# Altium footprint library Connector.PcbLib: 4 footprints
Each footprint in its own frame and in the unit in brackets; x right, y up, seen from the top. Pads: shape width x height; smd on the part's side, far side on the other; paste and mask are expansions set on the pad; w line width, h text height; cw(c..) or ccw(c..) is an arc to the next point about the centre after c.
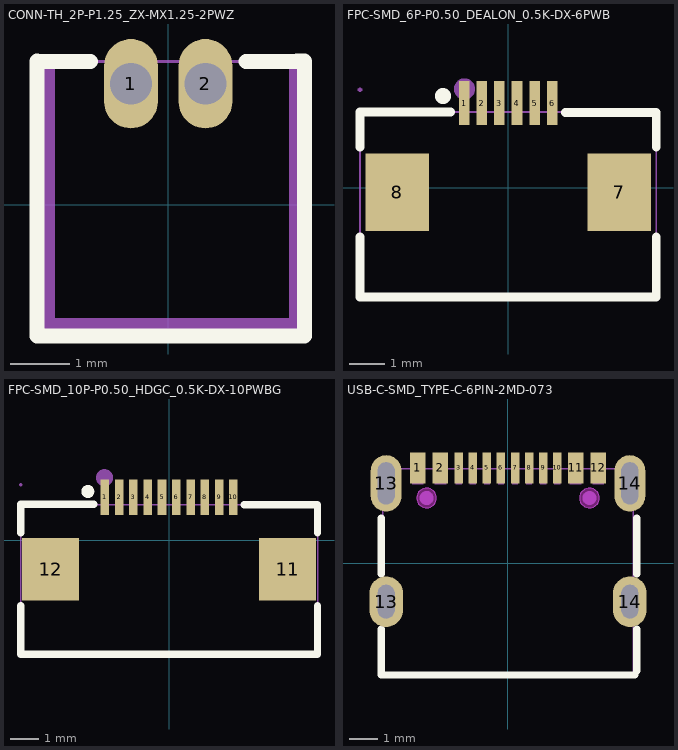
[diagram p0: the footprints below, top view; thin cyan lines are the x and y axes]

## CONN-TH_2P-P1.25_ZX-MX1.25-2PWZ [mm]
pads (2):
  oval 0.9x1.5 hole 0.7: 1(-0.625,2.032) 2(0.625,2.032)
Top Overlay:
  lines w0.254: -2.2,2.407 -1.306,2.407 ; -2.2,2.408 -2.2,-2.2 2.286,-2.2 2.286,2.408 2.159,2.408 ; 1.306,2.407 2.2,2.407
Mechanical 6:
  region: -1.905,2.286 -1.905,-1.905 2.032,-1.905 2.032,2.286 2.032,2.339 2.106,2.413 2.212,2.413 2.286,2.339 2.286,2.286 2.286,-2.032 2.286,-2.057 2.267,-2.104 2.231,-2.14 2.184,-2.159 2.159,-2.159 -2.032,-2.159 -2.057,-2.159 -2.104,-2.14 -2.14,-2.104 -2.159,-2.057 -2.159,-2.032 -2.159,2.286 -2.159,2.339 -2.085,2.413 -1.979,2.413 -1.905,2.339 -1.905,2.286
Mechanical 15:
  region: -0.775,2.207 -0.475,2.207 -0.475,1.857 -0.775,1.857
  region: 0.475,2.207 0.775,2.207 0.775,1.857 0.475,1.857
  region: -2.14,-2.193 -2.14,-2.218 -2.175,-2.253 -2.225,-2.253 -2.26,-2.218 -2.26,-2.193 -2.26,-2.168 -2.225,-2.133 -2.175,-2.133 -2.14,-2.168 -2.14,-2.193
  lines w0.051: -2.2,-2.193 2.2,-2.193 2.2,2.407 -2.2,2.407 -2.2,-2.193
3D body "JST - GH - Thru (R) - 2Pin - 1.25mm.stp": height 3.33, standoff -2.16, extent -2.215,-2.159 2.215,2.337

## FPC-SMD_6P-P0.50_DEALON_0.5K-DX-6PWB [mm]
pads (8):
  rect 0.3x1.25 smd paste+0 mask+0.05: 1(-1.25,2.406) 2(-0.75,2.406) 3(-0.25,2.406) 4(0.25,2.406) 5(0.75,2.406) 6(1.25,2.406)
  rect 1.8x2.2 smd paste+0 mask+0.05: 7(3.15,-0.12) 8(-3.15,-0.12)
Top Overlay:
  circle w0.254: c-1.85,2.605 r0.1
  lines w0.254: -4.2,-1.395 -4.2,-3.094 4.2,-3.094 4.2,-1.395 ; -4.2,1.156 -4.2,2.155 -1.631,2.155 ; 1.631,2.143 4.2,2.143 4.2,1.156
Mechanical 6:
  circle w0.3: c-1.24,2.805 r0.15
Mechanical 15:
  region: -4.14,2.786 -4.14,2.761 -4.175,2.726 -4.225,2.726 -4.26,2.761 -4.26,2.786 -4.26,2.811 -4.225,2.846 -4.175,2.846 -4.14,2.811 -4.14,2.786
  region: -1.35,2.786 -1.15,2.786 -1.15,2.086 -1.35,2.086
  region: -0.85,2.786 -0.65,2.786 -0.65,2.086 -0.85,2.086
  region: -0.35,2.786 -0.15,2.786 -0.15,2.086 -0.35,2.086
  region: 0.15,2.786 0.35,2.786 0.35,2.086 0.15,2.086
  region: 0.65,2.786 0.85,2.786 0.85,2.086 0.65,2.086
  region: 1.15,2.786 1.35,2.786 1.35,2.086 1.15,2.086
  region: -3.9,0.88 -2.4,0.88 -2.4,-1.12 -3.9,-1.12
  region: 2.4,0.88 3.9,0.88 3.9,-1.12 2.4,-1.12
  lines w0.051: -4.2,-3.094 -4.2,2.156 4.2,2.156 4.2,-3.094 -4.2,-3.094
3D body "FPC-05FB-6PH20.SLDPRT": height 2.03, standoff -0.05, extent -3.25,-3.114 3.25,2.286

## FPC-SMD_10P-P0.50_HDGC_0.5K-DX-10PWBG [mm]
pads (12):
  rect 0.3x1.25 smd paste+0 mask+0.05: 1(-2.25,1.517) 2(-1.75,1.517) 3(-1.25,1.517) 4(-0.75,1.517) 5(-0.25,1.517) 6(0.25,1.517) 7(0.75,1.517) 8(1.25,1.517) 9(1.75,1.517) 10(2.25,1.517)
  rect 2x2.2 smd paste+0 mask+0.05: 11(4.15,-1.009) 12(-4.15,-1.009)
Top Overlay:
  circle w0.254: c-2.85,1.716 r0.1
  lines w0.254: -5.2,-2.284 -5.2,-3.983 5.2,-3.983 5.2,-2.284 ; -5.2,0.267 -5.2,1.266 -2.631,1.266 ; 2.631,1.254 5.2,1.254 5.2,0.267
Mechanical 6:
  circle w0.3: c-2.264,2.198 r0.15
Mechanical 15:
  region: -5.14,1.953 -5.14,1.929 -5.175,1.893 -5.225,1.893 -5.26,1.929 -5.26,1.953 -5.26,1.978 -5.225,2.013 -5.175,2.013 -5.14,1.978 -5.14,1.953
  region: -2.35,1.953 -2.15,1.953 -2.15,1.153 -2.35,1.153
  region: -1.85,1.953 -1.65,1.953 -1.65,1.153 -1.85,1.153
  region: -1.35,1.953 -1.15,1.953 -1.15,1.153 -1.35,1.153
  region: -0.85,1.953 -0.65,1.953 -0.65,1.153 -0.85,1.153
  region: -0.35,1.953 -0.15,1.953 -0.15,1.153 -0.35,1.153
  region: 0.15,1.953 0.35,1.953 0.35,1.153 0.15,1.153
  region: 0.65,1.953 0.85,1.953 0.85,1.153 0.65,1.153
  region: 1.15,1.953 1.35,1.953 1.35,1.153 1.15,1.153
  region: 1.65,1.953 1.85,1.953 1.85,1.153 1.65,1.153
  region: 2.15,1.953 2.35,1.953 2.35,1.153 2.15,1.153
  region: -5.05,-0.009 -3.25,-0.009 -3.25,-2.009 -5.05,-2.009
  region: 3.25,-0.009 5.05,-0.009 5.05,-2.009 3.25,-2.009
  lines w0.051: -5.2,-3.997 -5.2,1.253 5.2,1.253 5.2,-3.997 -5.2,-3.997
3D body "FPC-05FB-10PH20.SLDPRT": height 2, standoff -0.05, extent -4.238,-4.048 4.262,1.602

## USB-C-SMD_TYPE-C-6PIN-2MD-073 [mm]
pads (16):
  rect 0.55x1.1 smd paste-100 mask+0.05: 1(-3.2,3.391) 2(-2.4,3.391) 11(2.4,3.391) 12(3.2,3.391)
  rect 0.3x1.1 smd paste-100 mask+0.05: 3(-1.75,3.391) 4(-1.25,3.391) 5(-0.75,3.391) 6(-0.25,3.391) 7(0.25,3.391) 8(0.75,3.391) 9(1.25,3.391) 10(1.75,3.391)
  oval 1.2x1.8 hole 0.6 slot 1.2 at 90 deg paste-2539.97 mask+0.05: 13(-4.325,-1.359) 14(4.325,-1.359)
  oval 1.1x2 hole 0.6 slot 1.5 at 90 deg paste-2539.97 mask+0.05: 13(-4.325,2.841) 14(4.325,2.841)
Top Overlay:
  lines w0.254: -4.5,-2.34 -4.5,-3.959 4.5,-3.959 ; -4.5,-0.378 -4.5,1.61 ; 4.572,-3.81 4.572,-2.337 ; 4.572,-0.381 4.572,1.613
Top Paste:
  drawing of 16 lines, arcs and shapes, not listed
Keep-Out Layer:
  board cut-out: -2.54,2.321 -2.54,2.251 -2.593,2.123 -2.692,2.024 -2.82,1.971 -2.96,1.971 -3.088,2.024 -3.187,2.123 -3.24,2.251 -3.24,2.321 -3.24,2.391 -3.187,2.519 -3.088,2.618 -2.96,2.671 -2.82,2.671 -2.692,2.618 -2.593,2.519 -2.54,2.391 -2.54,2.321
  board cut-out: 3.24,2.321 3.24,2.251 3.187,2.123 3.088,2.024 2.96,1.971 2.821,1.971 2.692,2.024 2.593,2.123 2.54,2.251 2.54,2.321 2.54,2.391 2.593,2.519 2.692,2.618 2.821,2.671 2.96,2.671 3.088,2.618 3.187,2.519 3.24,2.391 3.24,2.321
Keep-Out Layer:
  circle w0.025: c-2.89,2.321 r0.35
  circle w0.025: c2.89,2.321 r0.35
  region: -2.54,2.321 -2.54,2.251 -2.593,2.123 -2.692,2.024 -2.82,1.971 -2.96,1.971 -3.088,2.024 -3.187,2.123 -3.24,2.251 -3.24,2.321 -3.24,2.391 -3.187,2.519 -3.088,2.618 -2.96,2.671 -2.82,2.671 -2.692,2.618 -2.593,2.519 -2.54,2.391 -2.54,2.321
  region: 3.24,2.321 3.24,2.251 3.187,2.123 3.088,2.024 2.96,1.971 2.821,1.971 2.692,2.024 2.593,2.123 2.54,2.251 2.54,2.321 2.54,2.391 2.593,2.519 2.692,2.618 2.821,2.671 2.96,2.671 3.088,2.618 3.187,2.519 3.24,2.391 3.24,2.321
Mechanical 1:
  circle w0.025: c-2.89,2.321 r0.35
  circle w0.025: c2.89,2.321 r0.35
Mechanical 6:
  circle w0.25: c-2.89,2.321 r0.125
  circle w0.25: c2.89,2.321 r0.125
Mechanical 15:
  region: -4.39,3.665 -4.39,3.64 -4.425,3.605 -4.475,3.605 -4.51,3.64 -4.51,3.665 -4.51,3.69 -4.475,3.725 -4.425,3.725 -4.39,3.69 -4.39,3.665
  region: -1.85,3.665 -1.65,3.665 -1.65,2.815 -1.85,2.815
  region: -0.85,3.665 -0.65,3.665 -0.65,2.815 -0.85,2.815
  region: -1.35,3.665 -1.15,3.665 -1.15,2.815 -1.35,2.815
  region: -0.35,3.665 -0.15,3.665 -0.15,2.815 -0.35,2.815
  region: 0.15,3.665 0.35,3.665 0.35,2.815 0.15,2.815
  region: 0.65,3.665 0.85,3.665 0.85,2.815 0.65,2.815
  region: 1.15,3.665 1.35,3.665 1.35,2.815 1.15,2.815
  region: 1.65,3.665 1.85,3.665 1.85,2.815 1.65,2.815
  region: -3.4,3.665 -3,3.665 -3,2.815 -3.4,2.815
  region: -2.6,3.665 -2.2,3.665 -2.2,2.815 -2.6,2.815
  region: 2.2,3.665 2.6,3.665 2.6,2.815 2.2,2.815
  region: 3,3.665 3.4,3.665 3.4,2.815 3,2.815
  region: -4.45,3.365 -4.2,3.365 -4.2,2.265 -4.45,2.265
  region: 4.2,3.365 4.45,3.365 4.45,2.265 4.2,2.265
  region: -4.45,-1.009 -4.2,-1.009 -4.2,-1.709 -4.45,-1.709
  region: 4.2,-1.009 4.45,-1.009 4.45,-1.709 4.2,-1.709
  lines w0.051: -4.45,-3.985 -4.45,3.365 4.45,3.365 4.45,-3.985 -4.45,-3.985
3D body "UJ20-C-H-G-SMT-1-P16-TR.stp": height 3.1, standoff -1.06, extent -4.476,-3.85 4.464,3.748